# Altium footprint library Batteryheader.PcbLib: 1 footprints
Each footprint in its own frame and in the unit in brackets; x right, y up, seen from the top. Pads: shape width x height; smd on the part's side, far side on the other; paste and mask are expansions set on the pad; w line width, h text height; cw(c..) or ccw(c..) is an arc to the next point about the centre after c.
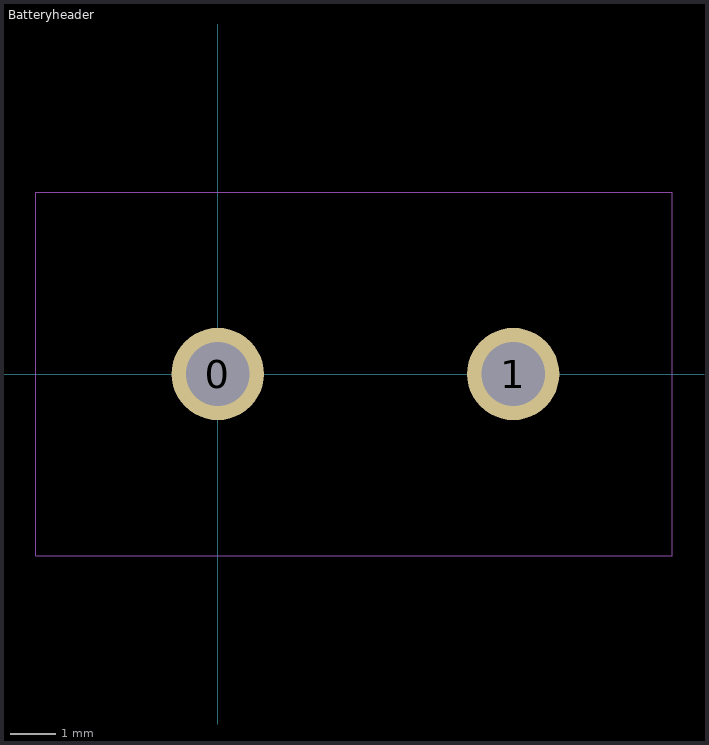
[diagram p0: the footprint, top view; thin cyan lines are the x and y axes]

## Batteryheader [mil]
pads (2):
  round 80 hole 55.12: 0(0,0) 1(255.91,0)
Mechanical 1:
  lines w1: -157.48,-157.48 393.7,-157.48 393.7,157.48 -157.48,157.48 -157.48,-157.48